# EAGLE library part 2X03 (library Jordi)
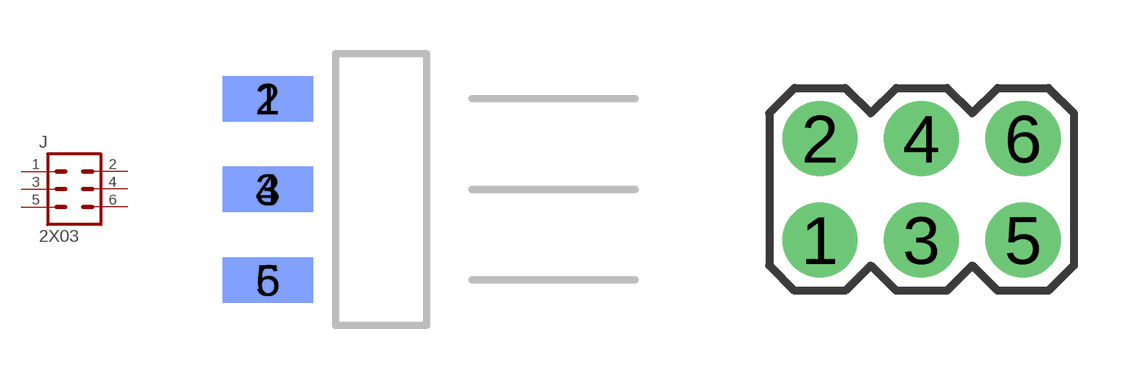
[diagram p8: symbol with the pads of M-2X03-0.1-EDGE; footprints M-2X03-0.1-EDGE, M-2X03-0.1-PTH]

Designator prefix J

## 2X03M-0.1-EDGE  [M-2X03-0.1-EDGE]
1  1  pas
2  2  pas
3  3  pas
4  4  pas
5  5  pas
6  6  pas

## 2X03M-0.1-PTH  [M-2X03-0.1-PTH]
Pads as for M-2X03-0.1-EDGE

## 2X03M-0.1-PTH-SHROUDED  [M-2X03-0.1-PTH-SHROUDED]
Pads as for M-2X03-0.1-EDGE

## 2X03M-0.1-EDGE-SHROUDED  [M-2X03-0.1-EDGE-SHROUDED]
Pads as for M-2X03-0.1-EDGE

## Footprint M-2X03-0.1-EDGE (pad centres in mm)
smd 2.54 x 1.27: 1 0,2.54; 3 0,0; 5 0,-2.54
smd 2.54 x 1.27 bottom: 2 0,2.54; 4 0,0; 6 0,-2.54

## Footprint M-2X03-0.1-PTH (pad centres in mm)
drill 1.016 pad 1.88: 1 -2.54,-1.27; 2 -2.54,1.27; 3 0,-1.27; 4 0,1.27; 5 2.54,-1.27; 6 2.54,1.27

## Footprint M-2X03-0.1-PTH-SHROUDED (pad centres in mm)
drill 1.016 pad 1.88: 1 -2.54,-1.27; 2 -2.54,1.27; 3 0,-1.27; 4 0,1.27; 5 2.54,-1.27; 6 2.54,1.27

## Footprint M-2X03-0.1-EDGE-SHROUDED (pad centres in mm)
smd 2.54 x 1.27: 1 0,2.54; 3 0,0; 5 0,-2.54
smd 2.54 x 1.27 bottom: 2 0,2.54; 4 0,0; 6 0,-2.54